# EAGLE library part 71-10SP-1D (library pswitch40)
Grayhill 71 Series, 10 Pos, 1 Pole, 1 Deck
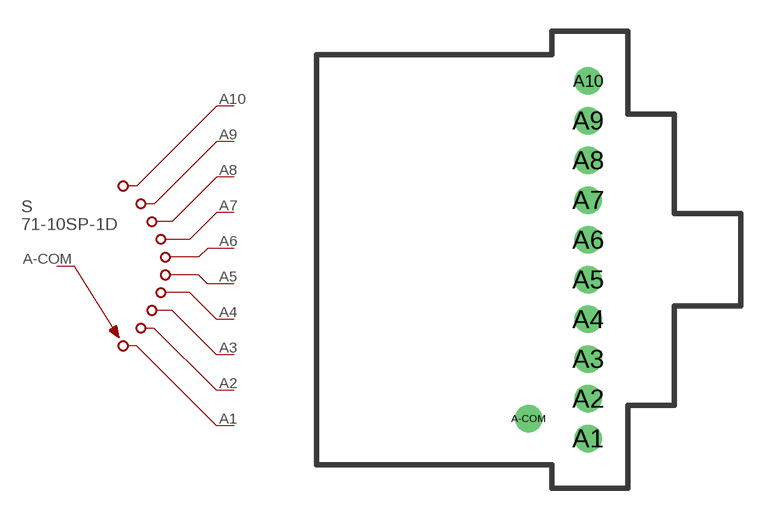
[diagram p10: symbol with the pads of 71-10-1D-1C; footprint 71-10-1D-1C]

Designator prefix S

## 71-10SP-1D  [71-10-1D-1C]
A1  1  pas
A2  2  pas
A3  3  pas
A4  4  pas
A5  5  pas
A6  6  pas
A7  7  pas
A8  8  pas
A9  9  pas
A10  10  pas
A-COM  COM  pas

## Footprint 71-10-1D-1C (pad centres in mm)
Grayhill 71 Series
drill 0.813 round: A1 2.857,-8.572; A2 2.857,-6.668; A3 2.857,-4.763; A4 2.857,-2.857; A5 2.857,-0.953; A6 2.857,0.953; A7 2.857,2.857; A8 2.857,4.763; A9 2.857,6.668; A10 2.857,8.572; A-COM 0,-7.62